# Altium schematic symbol library Schlib1.SchLib: 3 symbols
Pins are listed as number, name and electrical type; pins without a type are passive.

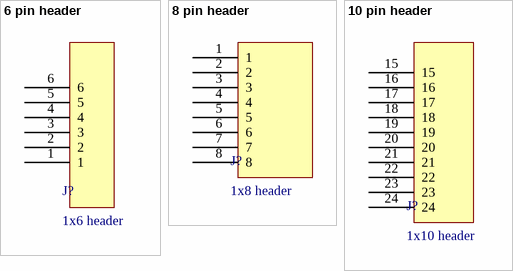
[diagram p0: symbols 6 pin header to 10 pin header]

## 6 pin header
designator J?, comment 1x6 header
1x6 pin header
footprint PCBComponent_1
pins: 1, 2, 3, 4, 5, 6

## 8 pin header
designator J?, comment 1x8 header
1x8 header pin
footprint PCBComponent_1 - duplicate
pins: 1, 2, 3, 4, 5, 6, 7, 8

## 10 pin header
designator J?, comment 1x10 header
1x10 header pin
footprint 1x10 pin header
pins: 15, 16, 17, 18, 19, 20, 21, 22, 23, 24